# EAGLE library part 79L12_SMD (library stabilizatory)
VOLTAGE REGULATOR
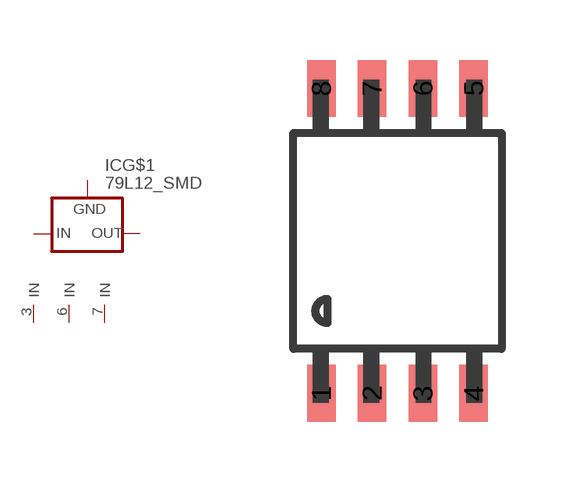
[diagram p5: symbol with the pads of SO8; footprint SO8]

Designator prefix IC; gates G$1=79XX G$2=IN G$3=IN G$4=IN

## 79L12_SMD  [SO8]
1  G$1:OUT  pas
2  G$1:IN  in
3  G$2:IN  in
5  G$1:GND  in
6  G$3:IN  in
7  G$4:IN  in

## Footprint SO8 (pad centres in mm)
SO8 Package
smd 0.711 x 1.422: 1 -1.905,-3.81; 2 -0.635,-3.81; 3 0.635,-3.81; 4 1.905,-3.81; 5 1.905,3.81; 6 0.635,3.81; 7 -0.635,3.81; 8 -1.905,3.81